# Altium integrated library Xilinx Kintex-7.IntLib: 108 symbols (part 25 of 39)
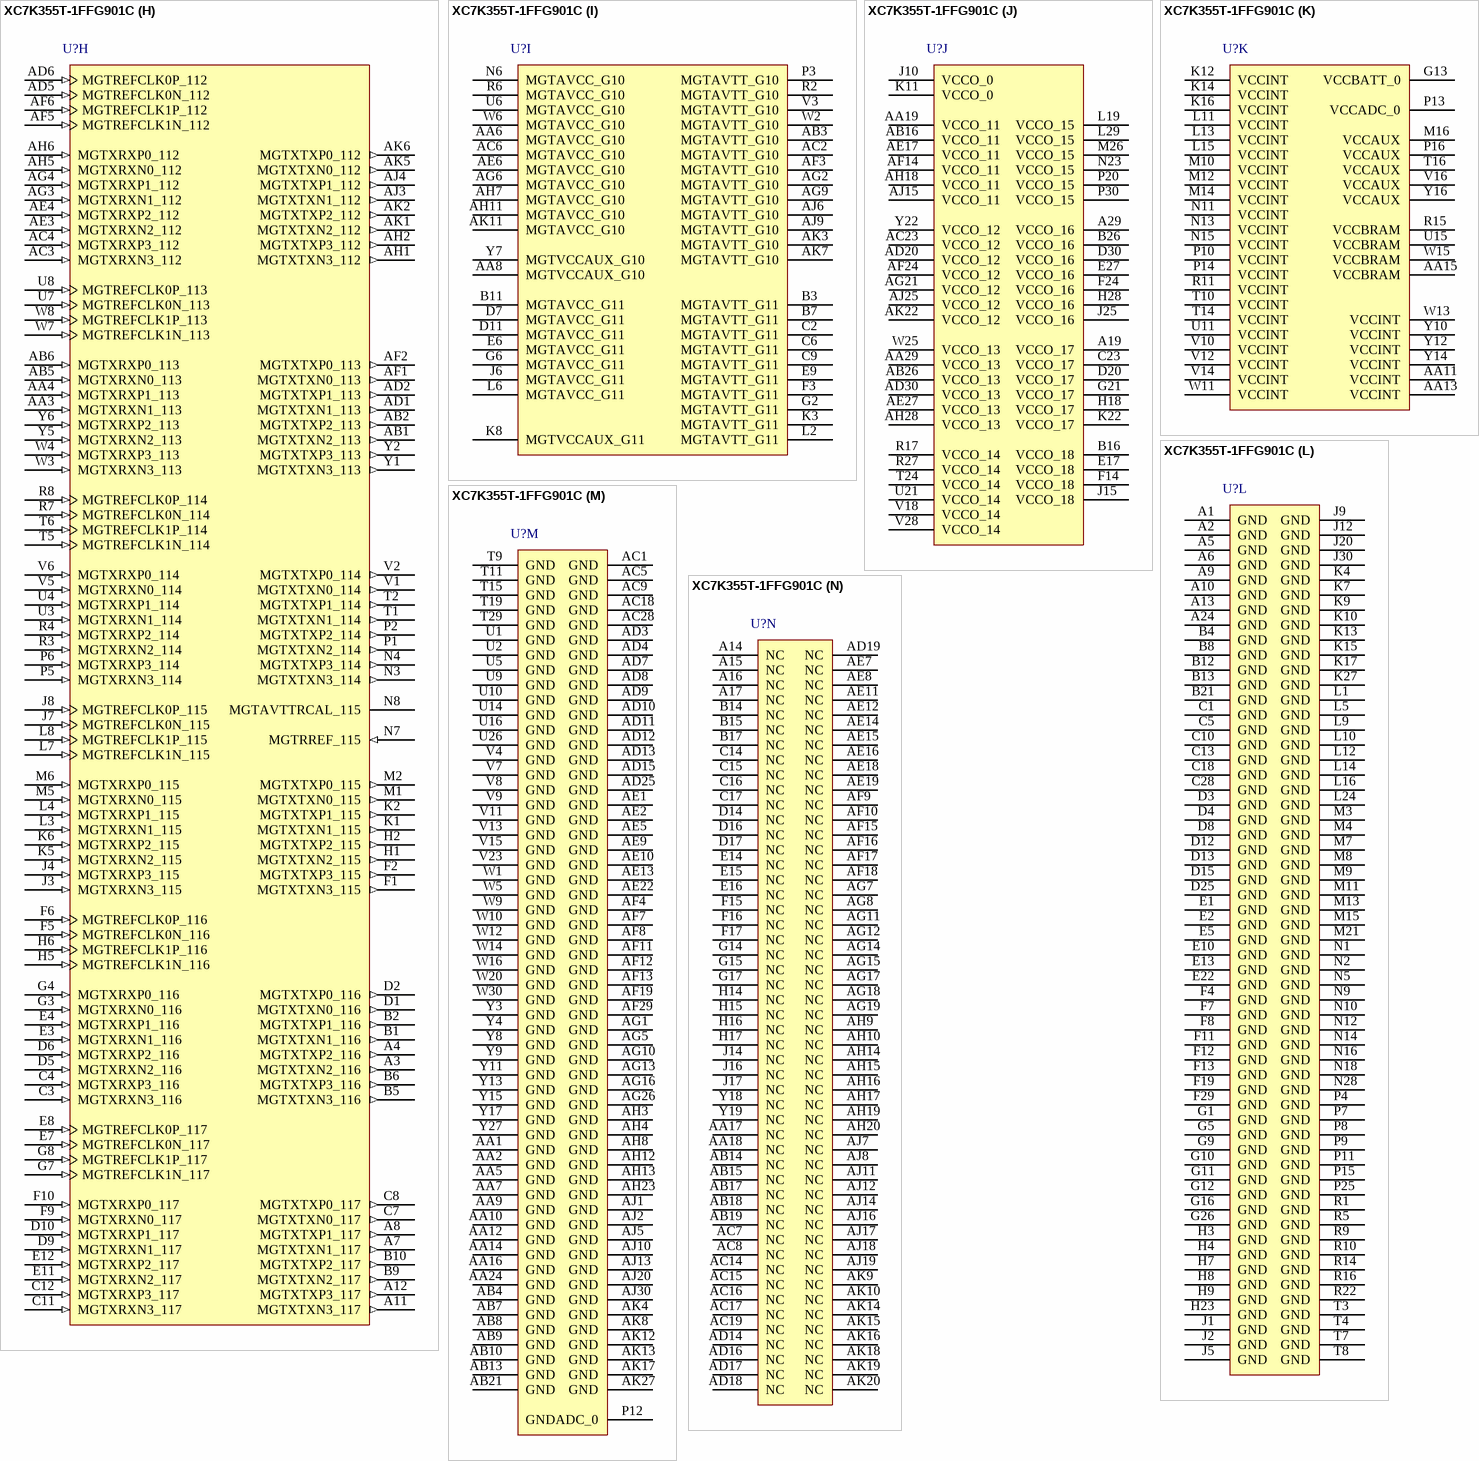
[diagram p315: symbol XC7K355T-1FFG901C]

## XC7K355T-1FFG901C
designator U?
Kintex-7 FPGA, 300 User I/Os, 24 GTX, 900-Ball BGA, Speed Grade 1, Commercial Grade, Pb-Free; Generic Part Number: XC7K355T; Manufacturer: Xilinx; PartNumber: XC7K355T-1FFG901C; GTX: 24; SelectIO HP: 0; SelectIO HR: 300; Speed Grade: -1; DatasheetVersion: v1.12; PackageVersion: Rev 1.8; PackageReference: FFG901; PackageDescription: Flip-Chip BGA, Body 31 x 31 mm, 1.0 mm Pitch; RoHS: Pb-Free; Mounting Technology: Surface Mount; Code_JEDEC: MS-034-AAN-1; ComponentLink1Description: Datasheet; ComponentLink1URL: http://www.xilinx.com/support/documentation/data_sheets/ds180_7Series_Overview.pdf; ComponentLink2Description: Package Specification; ComponentLink2URL: http://www.xilinx.com/support/documentation/user_guides/ug475_7Series_Pkg_Pinout.pdf
footprint FFG901 (BGA, 900-Balls, Body 31x31mm, Pitch 1mm)
part A pins: AA20 IO_L2P_T0_12 (io), AA21 IO_L2N_T0_12 (io), AA22 IO_L3P_T0_DQS_12 (io), AA23 IO_L3N_T0_DQS_12 (io), AB20 IO_L4P_T0_12 (io), AB22 IO_L5P_T0_12 (io), AB23 IO_L5N_T0_12 (io), AC20 IO_L4N_T0_12 (io), AC21 IO_L6P_T0_12 (io), AC22 IO_L6N_T0_VREF_12 (io), AD21 IO_L16P_T2_12 (io), AD22 IO_L16N_T2_12 (io), AD23 IO_L15P_T2_DQS_12 (io), AD24 IO_L10P_T1_12 (io), AD26 IO_L7P_T1_12 (io), AE20 IO_25_12 (io), AE21 IO_L17P_T2_12 (io), AE23 IO_L15N_T2_DQS_12 (io), AE24 IO_L10N_T1_12 (io), AE25 IO_L9P_T1_DQS_12 (io), AE26 IO_L7N_T1_12 (io), AF20 IO_L18P_T2_12 (io), AF21 IO_L17N_T2_12 (io), AF22 IO_L14P_T2_SRCC_12 (io), AF23 IO_L14N_T2_SRCC_12 (io), AF25 IO_L11P_T1_SRCC_12 (io), AF26 IO_L9N_T1_DQS_12 (io), AG20 IO_L18N_T2_12 (io), AG22 IO_L13P_T2_MRCC_12 (io), AG23 IO_L13N_T2_MRCC_12 (io), AG24 IO_L12P_T1_MRCC_12 (io), AG25 IO_L11N_T1_SRCC_12 (io), AH21 IO_L19P_T3_12 (io), AH22 IO_L19N_T3_VREF_12 (io), AH24 IO_L12N_T1_MRCC_12 (io), AH25 IO_L8P_T1_12 (io), AH26 IO_L8N_T1_12 (io), AJ21 IO_L20P_T3_12 (io), AJ22 IO_L21P_T3_DQS_12 (io), AJ23 IO_L22P_T3_12 (io), AJ24 IO_L22N_T3_12 (io), AJ26 IO_L24P_T3_12 (io), AK21 IO_L20N_T3_12 (io), AK23 IO_L21N_T3_DQS_12 (io), AK24 IO_L23P_T3_12 (io), AK25 IO_L23N_T3_12 (io), AK26 IO_L24N_T3_12 (io), Y20 IO_L1P_T0_12 (io), Y21 IO_L1N_T0_12 (io), Y23 IO_0_12 (io)
part B pins: AA25 IO_L8N_T1_13 (io), AA26 IO_L11N_T1_SRCC_13 (io), AA27 IO_L12P_T1_MRCC_13 (io), AA28 IO_L1P_T0_13 (io), AA30 IO_L3N_T0_DQS_13 (io), AB24 IO_L10P_T1_13 (io), AB25 IO_L9P_T1_DQS_13 (io), AB27 IO_L12N_T1_MRCC_13 (io), AB28 IO_L1N_T0_13 (io), AB29 IO_L2P_T0_13 (io), AB30 IO_L2N_T0_13 (io), AC24 IO_L10N_T1_13 (io), AC25 IO_L9N_T1_DQS_13 (io), AC26 IO_L7P_T1_13 (io), AC27 IO_L13P_T2_MRCC_13 (io), AC29 IO_L15P_T2_DQS_13 (io), AC30 IO_L15N_T2_DQS_13 (io), AD27 IO_L7N_T1_13 (io), AD28 IO_L13N_T2_MRCC_13 (io), AD29 IO_L16P_T2_13 (io), AE28 IO_L14P_T2_SRCC_13 (io), AE29 IO_L16N_T2_13 (io), AE30 IO_L17P_T2_13 (io), AF27 IO_L18P_T2_13 (io), AF28 IO_L14N_T2_SRCC_13 (io), AF30 IO_L17N_T2_13 (io), AG27 IO_L19P_T3_13 (io), AG28 IO_L18N_T2_13 (io), AG29 IO_L20P_T3_13 (io), AG30 IO_L22P_T3_13 (io), AH27 IO_L19N_T3_VREF_13 (io), AH29 IO_L20N_T3_13 (io), AH30 IO_L22N_T3_13 (io), AJ27 IO_L21P_T3_DQS_13 (io), AJ28 IO_L21N_T3_DQS_13 (io), AJ29 IO_L23P_T3_13 (io), AK28 IO_L24P_T3_13 (io), AK29 IO_L24N_T3_13 (io), AK30 IO_L23N_T3_13 (io), W24 IO_0_13 (io), W26 IO_L6P_T0_13 (io), W27 IO_L6N_T0_VREF_13 (io), W28 IO_L5P_T0_13 (io), W29 IO_L5N_T0_13 (io), Y24 IO_25_13 (io), Y25 IO_L8P_T1_13 (io), Y26 IO_L11P_T1_SRCC_13 (io), Y28 IO_L4P_T0_13 (io), Y29 IO_L4N_T0_13 (io), Y30 IO_L3P_T0_DQS_13 (io)
part C pins: R18 IO_L19P_T3_A10_D26_14 (io), R19 IO_L19N_T3_A09_D25_VREF_14 (io), R20 IO_L15P_T2_DQS_RDWR_B_14 (io), R21 IO_L15N_T2_DQS_DOUT_CSO_B_14 (io), R23 IO_L8P_T1_D11_14 (io), R24 IO_L7P_T1_D09_14 (io), R25 IO_L7N_T1_D10_14 (io), R26 IO_L10P_T1_D14_14 (io), R28 IO_L2P_T0_D02_14 (io), R30 IO_L1P_T0_D00_MOSI_14 (io), T17 IO_L21P_T3_DQS_14 (io), T18 IO_L21N_T3_DQS_A06_D22_14 (io), T20 IO_L16P_T2_CSI_B_14 (io), T21 IO_L16N_T2_A15_D31_14 (io), T22 IO_0_14 (io), T23 IO_L8N_T1_D12_14 (io), T25 IO_L11P_T1_SRCC_14 (io), T26 IO_L11N_T1_SRCC_14 (io), T27 IO_L10N_T1_D15_14 (io), T28 IO_L2N_T0_D03_14 (io), T30 IO_L1N_T0_D01_DIN_14 (io), U17 IO_L22P_T3_A05_D21_14 (io), U18 IO_L22N_T3_A04_D20_14 (io), U19 IO_L20P_T3_A08_D24_14 (io), U20 IO_L17P_T2_A14_D30_14 (io), U22 IO_L14P_T2_SRCC_14 (io), U23 IO_L14N_T2_SRCC_14 (io), U24 IO_L12P_T1_MRCC_14 (io), U25 IO_L12N_T1_MRCC_14 (io), U27 IO_L5P_T0_D06_14 (io), U28 IO_L5N_T0_D07_14 (io), U29 IO_L4P_T0_D04_14 (io), U30 IO_L4N_T0_D05_14 (io), V17 IO_L23P_T3_A03_D19_14 (io), V19 IO_L20N_T3_A07_D23_14 (io), V20 IO_L17N_T2_A13_D29_14 (io), V21 IO_L13P_T2_MRCC_14 (io), V22 IO_L13N_T2_MRCC_14 (io), V24 IO_L9P_T1_DQS_14 (io), V25 IO_L9N_T1_DQS_D13_14 (io), V26 IO_L6P_T0_FCS_B_14 (io), V27 IO_L6N_T0_D08_VREF_14 (io), V29 IO_L3P_T0_DQS_PUDC_B_14 (io), V30 IO_L3N_T0_DQS_EMCCLK_14 (io), W17 IO_L23N_T3_A02_D18_14 (io), W18 IO_L24P_T3_A01_D17_14 (io), W19 IO_L24N_T3_A00_D16_14 (io), W21 IO_25_14 (io), W22 IO_L18P_T2_A12_D28_14 (io), W23 IO_L18N_T2_A11_D27_14 (io)
part D pins: K24 IO_L15N_T2_DQS_ADV_B_15 (io), K25 IO_L7P_T1_AD10P_15 (io), K26 IO_L7N_T1_AD10N_15 (io), K28 IO_L1P_T0_AD0P_15 (io), K29 IO_L1N_T0_AD0N_15 (io), K30 IO_L2N_T0_AD8N_15 (io), L20 IO_L18P_T2_A24_15 (io), L21 IO_L18N_T2_A23_15 (io), L22 IO_0_15 (io), L23 IO_L15P_T2_DQS_15 (io), L25 IO_L11N_T1_SRCC_AD12N_15 (io), L26 IO_L12P_T1_MRCC_AD5P_15 (io), L27 IO_L12N_T1_MRCC_AD5N_15 (io), L28 IO_L6N_T0_VREF_15 (io), L30 IO_L2P_T0_AD8P_15 (io), M17 IO_L23N_T3_FWE_B_15 (io), M18 IO_L21P_T3_DQS_15 (io), M19 IO_L21N_T3_DQS_A18_15 (io), M20 IO_L19N_T3_A21_VREF_15 (io), M22 IO_L16N_T2_A27_15 (io), M23 IO_L13P_T2_MRCC_15 (io), M24 IO_L13N_T2_MRCC_15 (io), M25 IO_L11P_T1_SRCC_AD12P_15 (io), M27 IO_L9N_T1_DQS_AD11N_15 (io), M28 IO_L6P_T0_15 (io), M29 IO_L4N_T0_AD9N_15 (io), M30 IO_L3N_T0_DQS_AD1N_15 (io), N17 IO_L23P_T3_FOE_B_15 (io), N19 IO_L22N_T3_A16_15 (io), N20 IO_L19P_T3_A22_15 (io), N21 IO_L20N_T3_A19_15 (io), N22 IO_L16P_T2_A28_15 (io), N24 IO_L14P_T2_SRCC_15 (io), N25 IO_L14N_T2_SRCC_15 (io), N26 IO_L8N_T1_AD3N_15 (io), N27 IO_L9P_T1_DQS_AD11P_15 (io), N29 IO_L4P_T0_AD9P_15 (io), N30 IO_L3P_T0_DQS_AD1P_15 (io), P17 IO_L24P_T3_RS1_15 (io), P18 IO_L24N_T3_RS0_15 (io), P19 IO_L22P_T3_A17_15 (io), P21 IO_L20P_T3_A20_15 (io), P22 IO_25_15 (io), P23 IO_L17P_T2_A26_15 (io), P24 IO_L17N_T2_A25_15 (io), P26 IO_L8P_T1_AD3P_15 (io), P27 IO_L10P_T1_AD4P_15 (io), P28 IO_L10N_T1_AD4N_15 (io), P29 IO_L5N_T0_AD2N_15 (io), R29 IO_L5P_T0_AD2P_15 (io)
part E pins: A25 IO_L4P_T0_16 (io), A26 IO_L4N_T0_16 (io), A27 IO_L24P_T3_16 (io), A28 IO_L24N_T3_16 (io), A30 IO_L23N_T3_16 (io), B24 IO_L2P_T0_16 (io), B25 IO_L2N_T0_16 (io), B27 IO_L5N_T0_16 (io), B28 IO_L22P_T3_16 (io), B29 IO_L22N_T3_16 (io), B30 IO_L23P_T3_16 (io), C24 IO_L1N_T0_16 (io), C25 IO_L3P_T0_DQS_16 (io), C26 IO_L3N_T0_DQS_16 (io), C27 IO_L5P_T0_16 (io), C29 IO_L21P_T3_DQS_16 (io), C30 IO_L21N_T3_DQS_16 (io), D24 IO_L1P_T0_16 (io), D26 IO_L6P_T0_16 (io), D27 IO_L6N_T0_VREF_16 (io), D28 IO_L19N_T3_VREF_16 (io), D29 IO_L20N_T3_16 (io), E24 IO_0_16 (io), E25 IO_L12P_T1_MRCC_16 (io), E26 IO_L12N_T1_MRCC_16 (io), E28 IO_L19P_T3_16 (io), E29 IO_L20P_T3_16 (io), E30 IO_L16N_T2_16 (io), F25 IO_L11P_T1_SRCC_16 (io), F26 IO_L11N_T1_SRCC_16 (io), F27 IO_L13N_T2_MRCC_16 (io), F28 IO_L14N_T2_SRCC_16 (io), F30 IO_L16P_T2_16 (io), G24 IO_L7N_T1_16 (io), G25 IO_L8N_T1_16 (io), G27 IO_L13P_T2_MRCC_16 (io), G28 IO_L14P_T2_SRCC_16 (io), G29 IO_L15N_T2_DQS_16 (io), G30 IO_L17N_T2_16 (io), H24 IO_L7P_T1_16 (io), H25 IO_L8P_T1_16 (io), H26 IO_L10P_T1_16 (io), H27 IO_L10N_T1_16 (io), H29 IO_L15P_T2_DQS_16 (io), H30 IO_L17P_T2_16 (io), J24 IO_25_16 (io), J26 IO_L9P_T1_DQS_16 (io), J27 IO_L9N_T1_DQS_16 (io), J28 IO_L18P_T2_16 (io), J29 IO_L18N_T2_16 (io)
part F pins: A18 IO_L21N_T3_DQS_17 (io), A20 IO_L22P_T3_17 (io), A21 IO_L22N_T3_17 (io), A22 IO_L24P_T3_17 (io), A23 IO_L24N_T3_17 (io), B18 IO_L21P_T3_DQS_17 (io), B19 IO_L20P_T3_17 (io), B20 IO_L20N_T3_17 (io), B22 IO_L23P_T3_17 (io), B23 IO_L23N_T3_17 (io), C19 IO_L19P_T3_17 (io), C20 IO_L19N_T3_VREF_17 (io), C21 IO_L16P_T2_17 (io), C22 IO_L16N_T2_17 (io), D18 IO_L18P_T2_17 (io), D19 IO_L18N_T2_17 (io), D21 IO_L14P_T2_SRCC_17 (io), D22 IO_L14N_T2_SRCC_17 (io), D23 IO_L15N_T2_DQS_17 (io), E18 IO_L17P_T2_17 (io), E19 IO_L17N_T2_17 (io), E20 IO_L13P_T2_MRCC_17 (io), E21 IO_L13N_T2_MRCC_17 (io), E23 IO_L15P_T2_DQS_17 (io), F18 IO_L10N_T1_17 (io), F20 IO_L12P_T1_MRCC_17 (io), F21 IO_L12N_T1_MRCC_17 (io), F22 IO_L11N_T1_SRCC_17 (io), F23 IO_L7N_T1_17 (io), G18 IO_L10P_T1_17 (io), G19 IO_L9N_T1_DQS_17 (io), G20 IO_L8N_T1_17 (io), G22 IO_L11P_T1_SRCC_17 (io), G23 IO_L7P_T1_17 (io), H19 IO_L9P_T1_DQS_17 (io), H20 IO_L8P_T1_17 (io), H21 IO_0_17 (io), H22 IO_L2N_T0_17 (io), J18 IO_L5P_T0_17 (io), J19 IO_L5N_T0_17 (io), J21 IO_L3N_T0_DQS_17 (io), J22 IO_L2P_T0_17 (io), J23 IO_L1N_T0_17 (io), K18 IO_L6N_T0_VREF_17 (io), K19 IO_L4P_T0_17 (io), K20 IO_L4N_T0_17 (io), K21 IO_L3P_T0_DQS_17 (io), K23 IO_L1P_T0_17 (io), L17 IO_25_17 (io), L18 IO_L6P_T0_17 (io)
part G pins: AB11 PROGRAM_B_0 (in), AB12 M2_0 (in), AC10 DONE_0 (io), AC11 CFGBVS_0 (in), AC12 M1_0 (in), AC13 M0_0 (in), H10 INIT_B_0 (io), H11 TDI_0 (in), H12 TCK_0 (in), H13 CCLK_0 (io), J11 TMS_0 (in), J13 TDO_0 (out), R12 VREFN_0 (in), R13 VP_0 (in), T12 VN_0 (in), T13 VREFP_0 (in), U12 DXN_0 (in), U13 DXP_0 (in)
part H pins: A3 MGTXTXN2_116 (out), A4 MGTXTXP2_116 (out), A7 MGTXTXN1_117 (out), A8 MGTXTXP1_117 (out), A11 MGTXTXN3_117 (out), A12 MGTXTXP3_117 (out), AA3 MGTXRXN1_113 (in), AA4 MGTXRXP1_113 (in), AB1 MGTXTXN2_113 (out), AB2 MGTXTXP2_113 (out), AB5 MGTXRXN0_113 (in), AB6 MGTXRXP0_113 (in), AC3 MGTXRXN3_112 (in), AC4 MGTXRXP3_112 (in), AD1 MGTXTXN1_113 (out), AD2 MGTXTXP1_113 (out), AD5 MGTREFCLK0N_112 (in), AD6 MGTREFCLK0P_112 (in), AE3 MGTXRXN2_112 (in), AE4 MGTXRXP2_112 (in), AF1 MGTXTXN0_113 (out), AF2 MGTXTXP0_113 (out), AF5 MGTREFCLK1N_112 (in), AF6 MGTREFCLK1P_112 (in), AG3 MGTXRXN1_112 (in), AG4 MGTXRXP1_112 (in), AH1 MGTXTXN3_112 (out), AH2 MGTXTXP3_112 (out), AH5 MGTXRXN0_112 (in), AH6 MGTXRXP0_112 (in), AJ3 MGTXTXN1_112 (out), AJ4 MGTXTXP1_112 (out), AK1 MGTXTXN2_112 (out), AK2 MGTXTXP2_112 (out), AK5 MGTXTXN0_112 (out), AK6 MGTXTXP0_112 (out), B1 MGTXTXN1_116 (out), B2 MGTXTXP1_116 (out), B5 MGTXTXN3_116 (out), B6 MGTXTXP3_116 (out), B9 MGTXTXN2_117 (out), B10 MGTXTXP2_117 (out), C3 MGTXRXN3_116 (in), C4 MGTXRXP3_116 (in), C7 MGTXTXN0_117 (out), C8 MGTXTXP0_117 (out), C11 MGTXRXN3_117 (in), C12 MGTXRXP3_117 (in), D1 MGTXTXN0_116 (out), D2 MGTXTXP0_116 (out), D5 MGTXRXN2_116 (in), D6 MGTXRXP2_116 (in), D9 MGTXRXN1_117 (in), D10 MGTXRXP1_117 (in), E3 MGTXRXN1_116 (in), E4 MGTXRXP1_116 (in), E7 MGTREFCLK0N_117 (in), E8 MGTREFCLK0P_117 (in), E11 MGTXRXN2_117 (in), E12 MGTXRXP2_117 (in), F1 MGTXTXN3_115 (out), F2 MGTXTXP3_115 (out), F5 MGTREFCLK0N_116 (in), F6 MGTREFCLK0P_116 (in), F9 MGTXRXN0_117 (in), F10 MGTXRXP0_117 (in), G3 MGTXRXN0_116 (in), G4 MGTXRXP0_116 (in), G7 MGTREFCLK1N_117 (in), G8 MGTREFCLK1P_117 (in), H1 MGTXTXN2_115 (out), H2 MGTXTXP2_115 (out), H5 MGTREFCLK1N_116 (in), H6 MGTREFCLK1P_116 (in), J3 MGTXRXN3_115 (in), J4 MGTXRXP3_115 (in), J7 MGTREFCLK0N_115 (in), J8 MGTREFCLK0P_115 (in), K1 MGTXTXN1_115 (out), K2 MGTXTXP1_115 (out), K5 MGTXRXN2_115 (in), K6 MGTXRXP2_115 (in), L3 MGTXRXN1_115 (in), L4 MGTXRXP1_115 (in), L7 MGTREFCLK1N_115 (in), L8 MGTREFCLK1P_115 (in), M1 MGTXTXN0_115 (out), M2 MGTXTXP0_115 (out), M5 MGTXRXN0_115 (in), M6 MGTXRXP0_115 (in), N3 MGTXTXN3_114 (out), N4 MGTXTXP3_114 (out), N7 MGTRREF_115 (in), N8 MGTAVTTRCAL_115, P1 MGTXTXN2_114 (out), P2 MGTXTXP2_114 (out), P5 MGTXRXN3_114 (in), P6 MGTXRXP3_114 (in), R3 MGTXRXN2_114 (in), R4 MGTXRXP2_114 (in), R7 MGTREFCLK0N_114 (in), R8 MGTREFCLK0P_114 (in), T1 MGTXTXN1_114 (out), T2 MGTXTXP1_114 (out), T5 MGTREFCLK1N_114 (in), T6 MGTREFCLK1P_114 (in), U3 MGTXRXN1_114 (in), U4 MGTXRXP1_114 (in), U7 MGTREFCLK0N_113 (in), U8 MGTREFCLK0P_113 (in), V1 MGTXTXN0_114 (out), V2 MGTXTXP0_114 (out), V5 MGTXRXN0_114 (in), V6 MGTXRXP0_114 (in), W3 MGTXRXN3_113 (in), W4 MGTXRXP3_113 (in), W7 MGTREFCLK1N_113 (in), W8 MGTREFCLK1P_113 (in), Y1 MGTXTXN3_113 (out), Y2 MGTXTXP3_113 (out), Y5 MGTXRXN2_113 (in), Y6 MGTXRXP2_113 (in)
part I pins: AA6 MGTAVCC_G10 (power), AA8 MGTVCCAUX_G10 (power), AB3 MGTAVTT_G10 (power), AC2 MGTAVTT_G10 (power), AC6 MGTAVCC_G10 (power), AE6 MGTAVCC_G10 (power), AF3 MGTAVTT_G10 (power), AG2 MGTAVTT_G10 (power), AG6 MGTAVCC_G10 (power), AG9 MGTAVTT_G10 (power), AH7 MGTAVCC_G10 (power), AH11 MGTAVCC_G10 (power), AJ6 MGTAVTT_G10 (power), AJ9 MGTAVTT_G10 (power), AK3 MGTAVTT_G10 (power), AK7 MGTAVTT_G10 (power), AK11 MGTAVCC_G10 (power), B3 MGTAVTT_G11 (power), B7 MGTAVTT_G11 (power), B11 MGTAVCC_G11 (power), C2 MGTAVTT_G11 (power), C6 MGTAVTT_G11 (power), C9 MGTAVTT_G11 (power), D7 MGTAVCC_G11 (power), D11 MGTAVCC_G11 (power), E6 MGTAVCC_G11 (power), E9 MGTAVTT_G11 (power), F3 MGTAVTT_G11 (power), G2 MGTAVTT_G11 (power), G6 MGTAVCC_G11 (power), J6 MGTAVCC_G11 (power), K3 MGTAVTT_G11 (power), K8 MGTVCCAUX_G11 (power), L2 MGTAVTT_G11 (power), L6 MGTAVCC_G11 (power), N6 MGTAVCC_G10 (power), P3 MGTAVTT_G10 (power), R2 MGTAVTT_G10 (power), R6 MGTAVCC_G10 (power), U6 MGTAVCC_G10 (power), V3 MGTAVTT_G10 (power), W2 MGTAVTT_G10 (power), W6 MGTAVCC_G10 (power), Y7 MGTVCCAUX_G10 (power)
part J pins: A19 VCCO_17 (power), A29 VCCO_16 (power), AA19 VCCO_11 (power), AA29 VCCO_13 (power), AB16 VCCO_11 (power), AB26 VCCO_13 (power), AC23 VCCO_12 (power), AD20 VCCO_12 (power), AD30 VCCO_13 (power), AE17 VCCO_11 (power), AE27 VCCO_13 (power), AF14 VCCO_11 (power), AF24 VCCO_12 (power), AG21 VCCO_12 (power), AH18 VCCO_11 (power), AH28 VCCO_13 (power), AJ15 VCCO_11 (power), AJ25 VCCO_12 (power), AK22 VCCO_12 (power), B16 VCCO_18 (power), B26 VCCO_16 (power), C23 VCCO_17 (power), D20 VCCO_17 (power), D30 VCCO_16 (power), E17 VCCO_18 (power), E27 VCCO_16 (power), F14 VCCO_18 (power), F24 VCCO_16 (power), G21 VCCO_17 (power), H18 VCCO_17 (power), H28 VCCO_16 (power), J10 VCCO_0 (power), J15 VCCO_18 (power), J25 VCCO_16 (power), K11 VCCO_0 (power), K22 VCCO_17 (power), L19 VCCO_15 (power), L29 VCCO_15 (power), M26 VCCO_15 (power), N23 VCCO_15 (power), P20 VCCO_15 (power), P30 VCCO_15 (power), R17 VCCO_14 (power), R27 VCCO_14 (power), T24 VCCO_14 (power), U21 VCCO_14 (power), V18 VCCO_14 (power), V28 VCCO_14 (power), W25 VCCO_13 (power), Y22 VCCO_12 (power)
part K pins: AA11 VCCINT (power), AA13 VCCINT (power), AA15 VCCBRAM (power), G13 VCCBATT_0 (power), K12 VCCINT (power), K14 VCCINT (power), K16 VCCINT (power), L11 VCCINT (power), L13 VCCINT (power), L15 VCCINT (power), M10 VCCINT (power), M12 VCCINT (power), M14 VCCINT (power), M16 VCCAUX (power), N11 VCCINT (power), N13 VCCINT (power), N15 VCCINT (power), P10 VCCINT (power), P13 VCCADC_0 (power), P14 VCCINT (power), P16 VCCAUX (power), R11 VCCINT (power), R15 VCCBRAM (power), T10 VCCINT (power), T14 VCCINT (power), T16 VCCAUX (power), U11 VCCINT (power), U15 VCCBRAM (power), V10 VCCINT (power), V12 VCCINT (power), V14 VCCINT (power), V16 VCCAUX (power), W11 VCCINT (power), W13 VCCINT (power), W15 VCCBRAM (power), Y10 VCCINT (power), Y12 VCCINT (power), Y14 VCCINT (power), Y16 VCCAUX (power)
part L pins: A1 GND (power), A2 GND (power), A5 GND (power), A6 GND (power), A9 GND (power), A10 GND (power), A13 GND (power), A24 GND (power), B4 GND (power), B8 GND (power), B12 GND (power), B13 GND (power), B21 GND (power), C1 GND (power), C5 GND (power), C10 GND (power), C13 GND (power), C18 GND (power), C28 GND (power), D3 GND (power), D4 GND (power), D8 GND (power), D12 GND (power), D13 GND (power), D15 GND (power), D25 GND (power), E1 GND (power), E2 GND (power), E5 GND (power), E10 GND (power), E13 GND (power), E22 GND (power), F4 GND (power), F7 GND (power), F8 GND (power), F11 GND (power), F12 GND (power), F13 GND (power), F19 GND (power), F29 GND (power), G1 GND (power), G5 GND (power), G9 GND (power), G10 GND (power), G11 GND (power), G12 GND (power), G16 GND (power), G26 GND (power), H3 GND (power), H4 GND (power), H7 GND (power), H8 GND (power), H9 GND (power), H23 GND (power), J1 GND (power), J2 GND (power), J5 GND (power), J9 GND (power), J12 GND (power), J20 GND (power), J30 GND (power), K4 GND (power), K7 GND (power), K9 GND (power), K10 GND (power), K13 GND (power), K15 GND (power), K17 GND (power), K27 GND (power), L1 GND (power), L5 GND (power), L9 GND (power), L10 GND (power), L12 GND (power), L14 GND (power), L16 GND (power), L24 GND (power), M3 GND (power), M4 GND (power), M7 GND (power), M8 GND (power), M9 GND (power), M11 GND (power), M13 GND (power), M15 GND (power), M21 GND (power), N1 GND (power), N2 GND (power), N5 GND (power), N9 GND (power), N10 GND (power), N12 GND (power), N14 GND (power), N16 GND (power), N18 GND (power), N28 GND (power), P4 GND (power), P7 GND (power), P8 GND (power), P9 GND (power), P11 GND (power), P15 GND (power), P25 GND (power), R1 GND (power), R5 GND (power), R9 GND (power), R10 GND (power), R14 GND (power), R16 GND (power), R22 GND (power), T3 GND (power), T4 GND (power), T7 GND (power), T8 GND (power)
part M pins: AA1 GND (power), AA2 GND (power), AA5 GND (power), AA7 GND (power), AA9 GND (power), AA10 GND (power), AA12 GND (power), AA14 GND (power), AA16 GND (power), AA24 GND (power), AB4 GND (power), AB7 GND (power), AB8 GND (power), AB9 GND (power), AB10 GND (power), AB13 GND (power), AB21 GND (power), AC1 GND (power), AC5 GND (power), AC9 GND (power), AC18 GND (power), AC28 GND (power), AD3 GND (power), AD4 GND (power), AD7 GND (power), AD8 GND (power), AD9 GND (power), AD10 GND (power), AD11 GND (power), AD12 GND (power), AD13 GND (power), AD15 GND (power), AD25 GND (power), AE1 GND (power), AE2 GND (power), AE5 GND (power), AE9 GND (power), AE10 GND (power), AE13 GND (power), AE22 GND (power), AF4 GND (power), AF7 GND (power), AF8 GND (power), AF11 GND (power), AF12 GND (power), AF13 GND (power), AF19 GND (power), AF29 GND (power), AG1 GND (power), AG5 GND (power), AG10 GND (power), AG13 GND (power), AG16 GND (power), AG26 GND (power), AH3 GND (power), AH4 GND (power), AH8 GND (power), AH12 GND (power), AH13 GND (power), AH23 GND (power), AJ1 GND (power), AJ2 GND (power), AJ5 GND (power), AJ10 GND (power), AJ13 GND (power), AJ20 GND (power), AJ30 GND (power), AK4 GND (power), AK8 GND (power), AK12 GND (power), AK13 GND (power), AK17 GND (power), AK27 GND (power), P12 GNDADC_0 (power), T9 GND (power), T11 GND (power), T15 GND (power), T19 GND (power), T29 GND (power), U1 GND (power), U2 GND (power), U5 GND (power), U9 GND (power), U10 GND (power), U14 GND (power), U16 GND (power), U26 GND (power), V4 GND (power), V7 GND (power), V8 GND (power), V9 GND (power), V11 GND (power), V13 GND (power), V15 GND (power), V23 GND (power), W1 GND (power), W5 GND (power), W9 GND (power), W10 GND (power), W12 GND (power), W14 GND (power), W16 GND (power), W20 GND (power), W30 GND (power), Y3 GND (power), Y4 GND (power), Y8 GND (power), Y9 GND (power), Y11 GND (power), Y13 GND (power), Y15 GND (power), Y17 GND (power), Y27 GND (power)
part N pins: A14 NC, A15 NC, A16 NC, A17 NC, AA17 NC, AA18 NC, AB14 NC, AB15 NC, AB17 NC, AB18 NC, AB19 NC, AC7 NC, AC8 NC, AC14 NC, AC15 NC, AC16 NC, AC17 NC, AC19 NC, AD14 NC, AD16 NC, AD17 NC, AD18 NC, AD19 NC, AE7 NC, AE8 NC, AE11 NC, AE12 NC, AE14 NC, AE15 NC, AE16 NC, AE18 NC, AE19 NC, AF9 NC, AF10 NC, AF15 NC, AF16 NC, AF17 NC, AF18 NC, AG7 NC, AG8 NC, AG11 NC, AG12 NC, AG14 NC, AG15 NC, AG17 NC, AG18 NC, AG19 NC, AH9 NC, AH10 NC, AH14 NC, AH15 NC, AH16 NC, AH17 NC, AH19 NC, AH20 NC, AJ7 NC, AJ8 NC, AJ11 NC, AJ12 NC, AJ14 NC, AJ16 NC, AJ17 NC, AJ18 NC, AJ19 NC, AK9 NC, AK10 NC, AK14 NC, AK15 NC, AK16 NC, AK18 NC, AK19 NC, AK20 NC, B14 NC, B15 NC, B17 NC, C14 NC, C15 NC, C16 NC, C17 NC, D14 NC, D16 NC, D17 NC, E14 NC, E15 NC, E16 NC, F15 NC, F16 NC, F17 NC, G14 NC, G15 NC, G17 NC, H14 NC, H15 NC, H16 NC, H17 NC, J14 NC, J16 NC, J17 NC, Y18 NC, Y19 NC
part A text: BANK 12
part B text: BANK 13
part C text: BANK 14
part D text: BANK 15
part E text: BANK 16
part F text: BANK 17

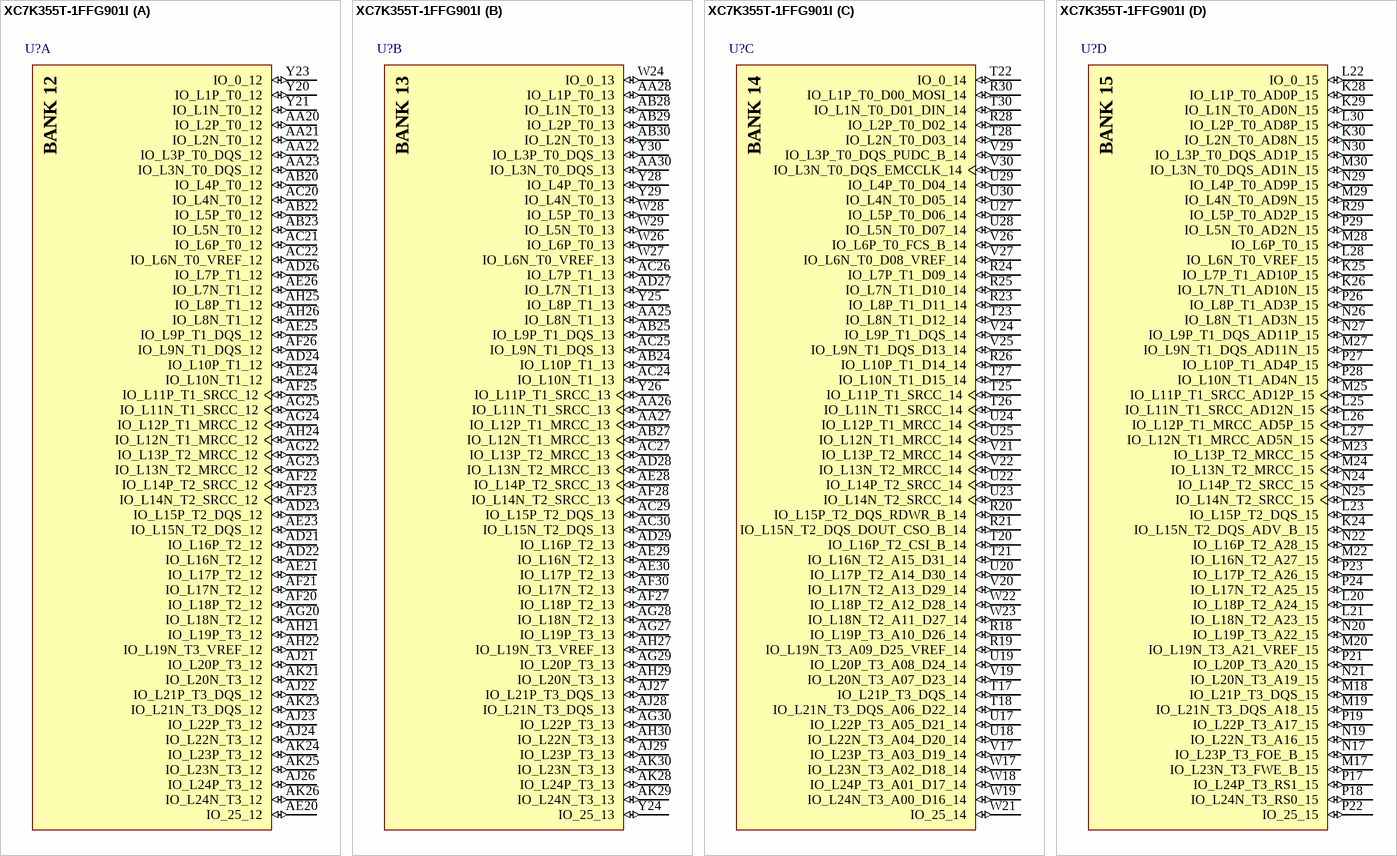
[diagram p136: symbol XC7K355T-1FFG901I]

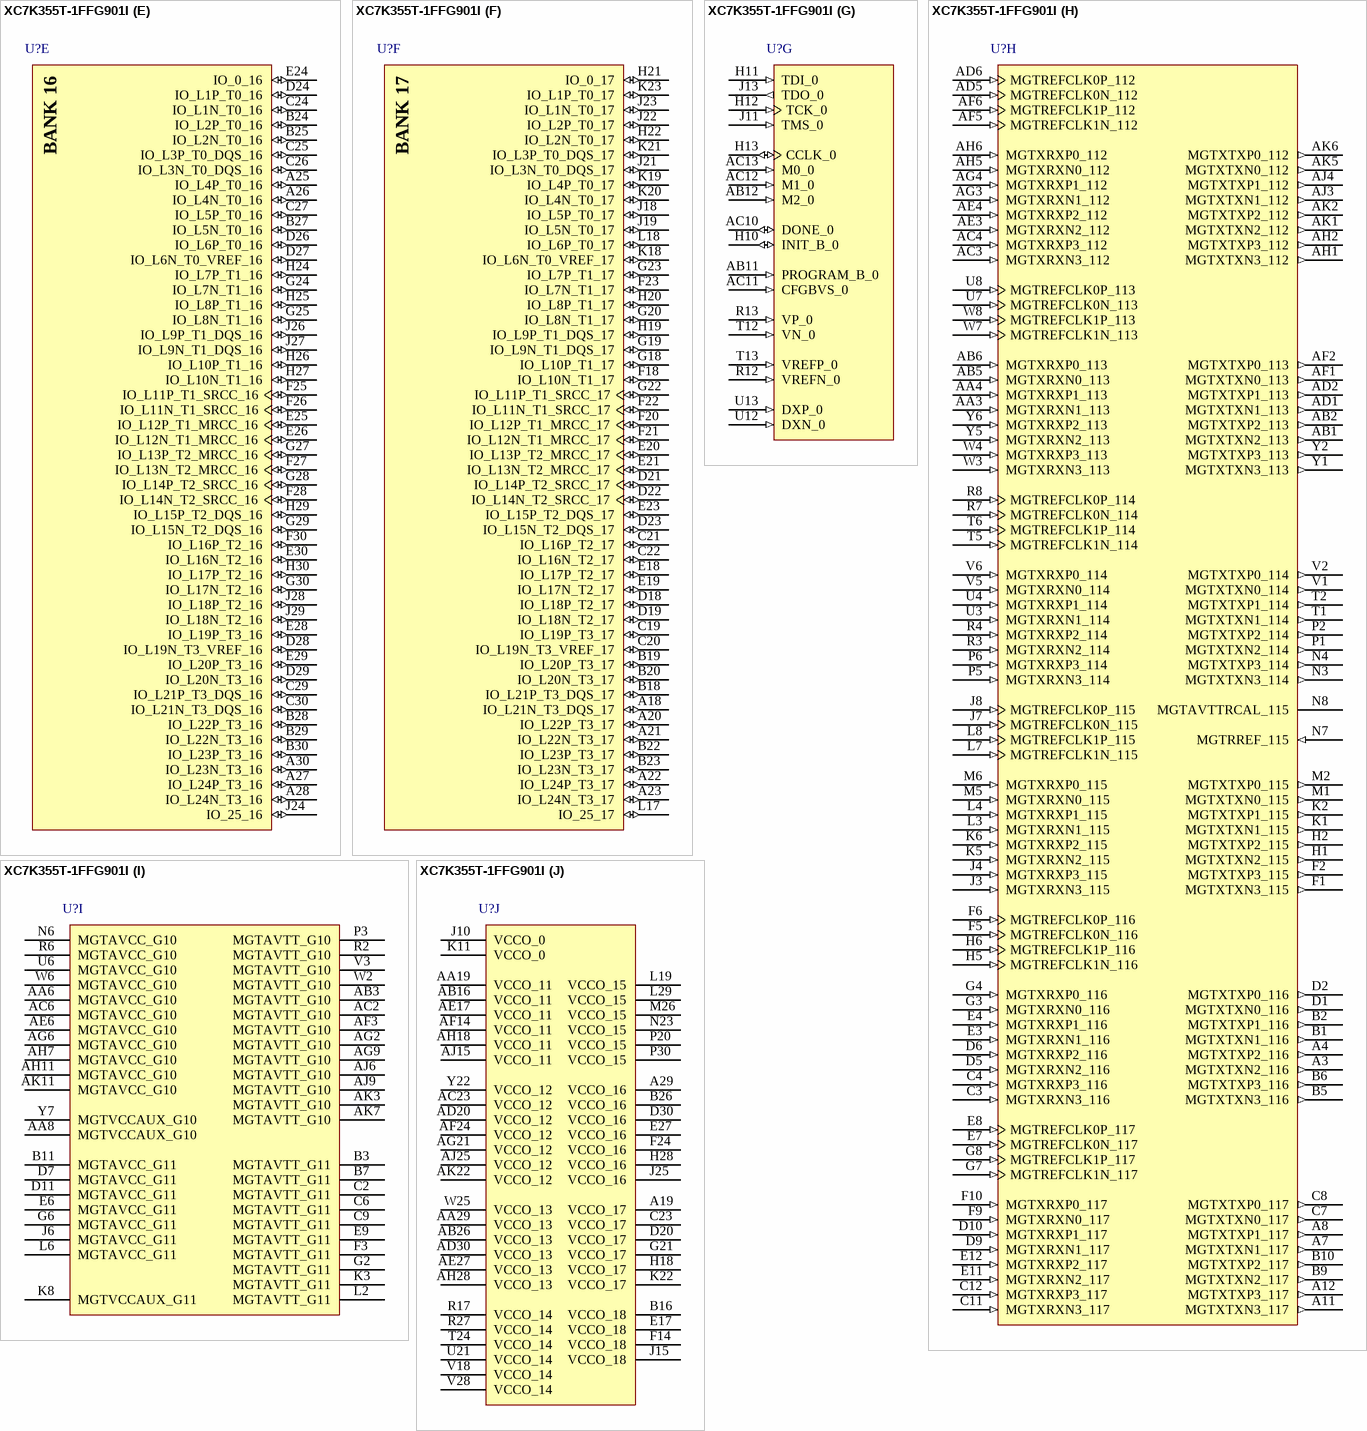
[diagram p137: symbol XC7K355T-1FFG901I]

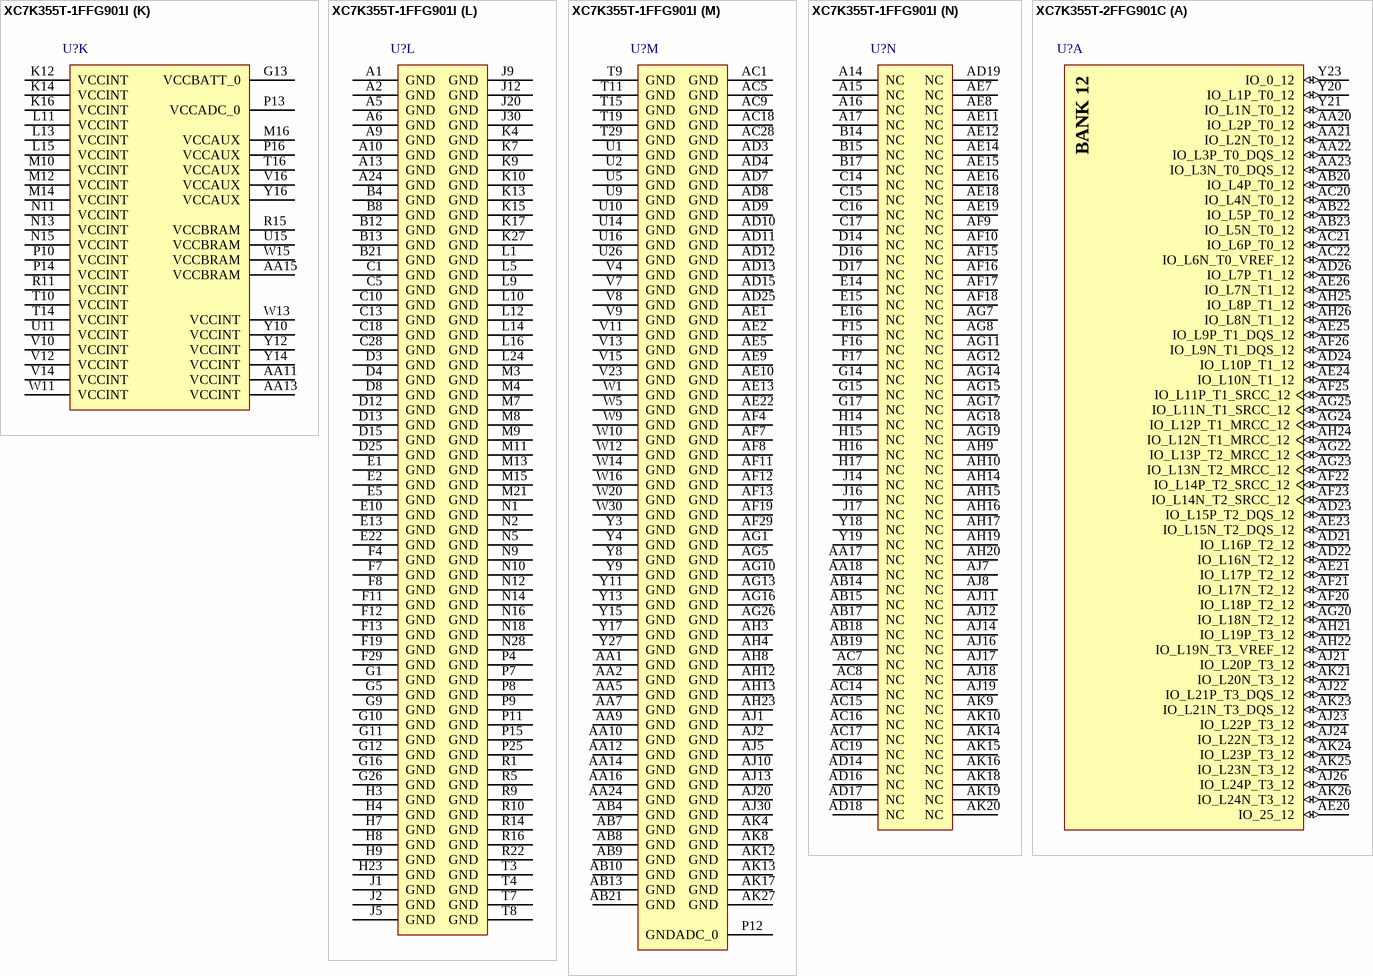
[diagram p138: symbols XC7K355T-1FFG901I to XC7K355T-2FFG901C]

## XC7K355T-1FFG901I
designator U?
Kintex-7 FPGA, 300 User I/Os, 24 GTX, 900-Ball BGA, Speed Grade 1, Industrial Grade, Pb-Free; Generic Part Number: XC7K355T; Manufacturer: Xilinx; PartNumber: XC7K355T-1FFG901I; GTX: 24; SelectIO HP: 0; SelectIO HR: 300; Speed Grade: -1; DatasheetVersion: v1.12; PackageVersion: Rev 1.8; PackageReference: FFG901; PackageDescription: Flip-Chip BGA, Body 31 x 31 mm, 1.0 mm Pitch; RoHS: Pb-Free; Mounting Technology: Surface Mount; Code_JEDEC: MS-034-AAN-1; ComponentLink1Description: Datasheet; ComponentLink1URL: http://www.xilinx.com/support/documentation/data_sheets/ds180_7Series_Overview.pdf; ComponentLink2Description: Package Specification; ComponentLink2URL: http://www.xilinx.com/support/documentation/user_guides/ug475_7Series_Pkg_Pinout.pdf
footprint FFG901 (BGA, 900-Balls, Body 31x31mm, Pitch 1mm)
part A pins: AA20 IO_L2P_T0_12 (io), AA21 IO_L2N_T0_12 (io), AA22 IO_L3P_T0_DQS_12 (io), AA23 IO_L3N_T0_DQS_12 (io), AB20 IO_L4P_T0_12 (io), AB22 IO_L5P_T0_12 (io), AB23 IO_L5N_T0_12 (io), AC20 IO_L4N_T0_12 (io), AC21 IO_L6P_T0_12 (io), AC22 IO_L6N_T0_VREF_12 (io), AD21 IO_L16P_T2_12 (io), AD22 IO_L16N_T2_12 (io), AD23 IO_L15P_T2_DQS_12 (io), AD24 IO_L10P_T1_12 (io), AD26 IO_L7P_T1_12 (io), AE20 IO_25_12 (io), AE21 IO_L17P_T2_12 (io), AE23 IO_L15N_T2_DQS_12 (io), AE24 IO_L10N_T1_12 (io), AE25 IO_L9P_T1_DQS_12 (io), AE26 IO_L7N_T1_12 (io), AF20 IO_L18P_T2_12 (io), AF21 IO_L17N_T2_12 (io), AF22 IO_L14P_T2_SRCC_12 (io), AF23 IO_L14N_T2_SRCC_12 (io), AF25 IO_L11P_T1_SRCC_12 (io), AF26 IO_L9N_T1_DQS_12 (io), AG20 IO_L18N_T2_12 (io), AG22 IO_L13P_T2_MRCC_12 (io), AG23 IO_L13N_T2_MRCC_12 (io), AG24 IO_L12P_T1_MRCC_12 (io), AG25 IO_L11N_T1_SRCC_12 (io), AH21 IO_L19P_T3_12 (io), AH22 IO_L19N_T3_VREF_12 (io), AH24 IO_L12N_T1_MRCC_12 (io), AH25 IO_L8P_T1_12 (io), AH26 IO_L8N_T1_12 (io), AJ21 IO_L20P_T3_12 (io), AJ22 IO_L21P_T3_DQS_12 (io), AJ23 IO_L22P_T3_12 (io), AJ24 IO_L22N_T3_12 (io), AJ26 IO_L24P_T3_12 (io), AK21 IO_L20N_T3_12 (io), AK23 IO_L21N_T3_DQS_12 (io), AK24 IO_L23P_T3_12 (io), AK25 IO_L23N_T3_12 (io), AK26 IO_L24N_T3_12 (io), Y20 IO_L1P_T0_12 (io), Y21 IO_L1N_T0_12 (io), Y23 IO_0_12 (io)
part B pins: AA25 IO_L8N_T1_13 (io), AA26 IO_L11N_T1_SRCC_13 (io), AA27 IO_L12P_T1_MRCC_13 (io), AA28 IO_L1P_T0_13 (io), AA30 IO_L3N_T0_DQS_13 (io), AB24 IO_L10P_T1_13 (io), AB25 IO_L9P_T1_DQS_13 (io), AB27 IO_L12N_T1_MRCC_13 (io), AB28 IO_L1N_T0_13 (io), AB29 IO_L2P_T0_13 (io), AB30 IO_L2N_T0_13 (io), AC24 IO_L10N_T1_13 (io), AC25 IO_L9N_T1_DQS_13 (io), AC26 IO_L7P_T1_13 (io), AC27 IO_L13P_T2_MRCC_13 (io), AC29 IO_L15P_T2_DQS_13 (io), AC30 IO_L15N_T2_DQS_13 (io), AD27 IO_L7N_T1_13 (io), AD28 IO_L13N_T2_MRCC_13 (io), AD29 IO_L16P_T2_13 (io), AE28 IO_L14P_T2_SRCC_13 (io), AE29 IO_L16N_T2_13 (io), AE30 IO_L17P_T2_13 (io), AF27 IO_L18P_T2_13 (io), AF28 IO_L14N_T2_SRCC_13 (io), AF30 IO_L17N_T2_13 (io), AG27 IO_L19P_T3_13 (io), AG28 IO_L18N_T2_13 (io), AG29 IO_L20P_T3_13 (io), AG30 IO_L22P_T3_13 (io), AH27 IO_L19N_T3_VREF_13 (io), AH29 IO_L20N_T3_13 (io), AH30 IO_L22N_T3_13 (io), AJ27 IO_L21P_T3_DQS_13 (io), AJ28 IO_L21N_T3_DQS_13 (io), AJ29 IO_L23P_T3_13 (io), AK28 IO_L24P_T3_13 (io), AK29 IO_L24N_T3_13 (io), AK30 IO_L23N_T3_13 (io), W24 IO_0_13 (io), W26 IO_L6P_T0_13 (io), W27 IO_L6N_T0_VREF_13 (io), W28 IO_L5P_T0_13 (io), W29 IO_L5N_T0_13 (io), Y24 IO_25_13 (io), Y25 IO_L8P_T1_13 (io), Y26 IO_L11P_T1_SRCC_13 (io), Y28 IO_L4P_T0_13 (io), Y29 IO_L4N_T0_13 (io), Y30 IO_L3P_T0_DQS_13 (io)
part C pins: R18 IO_L19P_T3_A10_D26_14 (io), R19 IO_L19N_T3_A09_D25_VREF_14 (io), R20 IO_L15P_T2_DQS_RDWR_B_14 (io), R21 IO_L15N_T2_DQS_DOUT_CSO_B_14 (io), R23 IO_L8P_T1_D11_14 (io), R24 IO_L7P_T1_D09_14 (io), R25 IO_L7N_T1_D10_14 (io), R26 IO_L10P_T1_D14_14 (io), R28 IO_L2P_T0_D02_14 (io), R30 IO_L1P_T0_D00_MOSI_14 (io), T17 IO_L21P_T3_DQS_14 (io), T18 IO_L21N_T3_DQS_A06_D22_14 (io), T20 IO_L16P_T2_CSI_B_14 (io), T21 IO_L16N_T2_A15_D31_14 (io), T22 IO_0_14 (io), T23 IO_L8N_T1_D12_14 (io), T25 IO_L11P_T1_SRCC_14 (io), T26 IO_L11N_T1_SRCC_14 (io), T27 IO_L10N_T1_D15_14 (io), T28 IO_L2N_T0_D03_14 (io), T30 IO_L1N_T0_D01_DIN_14 (io), U17 IO_L22P_T3_A05_D21_14 (io), U18 IO_L22N_T3_A04_D20_14 (io), U19 IO_L20P_T3_A08_D24_14 (io), U20 IO_L17P_T2_A14_D30_14 (io), U22 IO_L14P_T2_SRCC_14 (io), U23 IO_L14N_T2_SRCC_14 (io), U24 IO_L12P_T1_MRCC_14 (io), U25 IO_L12N_T1_MRCC_14 (io), U27 IO_L5P_T0_D06_14 (io), U28 IO_L5N_T0_D07_14 (io), U29 IO_L4P_T0_D04_14 (io), U30 IO_L4N_T0_D05_14 (io), V17 IO_L23P_T3_A03_D19_14 (io), V19 IO_L20N_T3_A07_D23_14 (io), V20 IO_L17N_T2_A13_D29_14 (io), V21 IO_L13P_T2_MRCC_14 (io), V22 IO_L13N_T2_MRCC_14 (io), V24 IO_L9P_T1_DQS_14 (io), V25 IO_L9N_T1_DQS_D13_14 (io), V26 IO_L6P_T0_FCS_B_14 (io), V27 IO_L6N_T0_D08_VREF_14 (io), V29 IO_L3P_T0_DQS_PUDC_B_14 (io), V30 IO_L3N_T0_DQS_EMCCLK_14 (io), W17 IO_L23N_T3_A02_D18_14 (io), W18 IO_L24P_T3_A01_D17_14 (io), W19 IO_L24N_T3_A00_D16_14 (io), W21 IO_25_14 (io), W22 IO_L18P_T2_A12_D28_14 (io), W23 IO_L18N_T2_A11_D27_14 (io)
part D pins: K24 IO_L15N_T2_DQS_ADV_B_15 (io), K25 IO_L7P_T1_AD10P_15 (io), K26 IO_L7N_T1_AD10N_15 (io), K28 IO_L1P_T0_AD0P_15 (io), K29 IO_L1N_T0_AD0N_15 (io), K30 IO_L2N_T0_AD8N_15 (io), L20 IO_L18P_T2_A24_15 (io), L21 IO_L18N_T2_A23_15 (io), L22 IO_0_15 (io), L23 IO_L15P_T2_DQS_15 (io), L25 IO_L11N_T1_SRCC_AD12N_15 (io), L26 IO_L12P_T1_MRCC_AD5P_15 (io), L27 IO_L12N_T1_MRCC_AD5N_15 (io), L28 IO_L6N_T0_VREF_15 (io), L30 IO_L2P_T0_AD8P_15 (io), M17 IO_L23N_T3_FWE_B_15 (io), M18 IO_L21P_T3_DQS_15 (io), M19 IO_L21N_T3_DQS_A18_15 (io), M20 IO_L19N_T3_A21_VREF_15 (io), M22 IO_L16N_T2_A27_15 (io), M23 IO_L13P_T2_MRCC_15 (io), M24 IO_L13N_T2_MRCC_15 (io), M25 IO_L11P_T1_SRCC_AD12P_15 (io), M27 IO_L9N_T1_DQS_AD11N_15 (io), M28 IO_L6P_T0_15 (io), M29 IO_L4N_T0_AD9N_15 (io), M30 IO_L3N_T0_DQS_AD1N_15 (io), N17 IO_L23P_T3_FOE_B_15 (io), N19 IO_L22N_T3_A16_15 (io), N20 IO_L19P_T3_A22_15 (io), N21 IO_L20N_T3_A19_15 (io), N22 IO_L16P_T2_A28_15 (io), N24 IO_L14P_T2_SRCC_15 (io), N25 IO_L14N_T2_SRCC_15 (io), N26 IO_L8N_T1_AD3N_15 (io), N27 IO_L9P_T1_DQS_AD11P_15 (io), N29 IO_L4P_T0_AD9P_15 (io), N30 IO_L3P_T0_DQS_AD1P_15 (io), P17 IO_L24P_T3_RS1_15 (io), P18 IO_L24N_T3_RS0_15 (io), P19 IO_L22P_T3_A17_15 (io), P21 IO_L20P_T3_A20_15 (io), P22 IO_25_15 (io), P23 IO_L17P_T2_A26_15 (io), P24 IO_L17N_T2_A25_15 (io), P26 IO_L8P_T1_AD3P_15 (io), P27 IO_L10P_T1_AD4P_15 (io), P28 IO_L10N_T1_AD4N_15 (io), P29 IO_L5N_T0_AD2N_15 (io), R29 IO_L5P_T0_AD2P_15 (io)
part E pins: A25 IO_L4P_T0_16 (io), A26 IO_L4N_T0_16 (io), A27 IO_L24P_T3_16 (io), A28 IO_L24N_T3_16 (io), A30 IO_L23N_T3_16 (io), B24 IO_L2P_T0_16 (io), B25 IO_L2N_T0_16 (io), B27 IO_L5N_T0_16 (io), B28 IO_L22P_T3_16 (io), B29 IO_L22N_T3_16 (io), B30 IO_L23P_T3_16 (io), C24 IO_L1N_T0_16 (io), C25 IO_L3P_T0_DQS_16 (io), C26 IO_L3N_T0_DQS_16 (io), C27 IO_L5P_T0_16 (io), C29 IO_L21P_T3_DQS_16 (io), C30 IO_L21N_T3_DQS_16 (io), D24 IO_L1P_T0_16 (io), D26 IO_L6P_T0_16 (io), D27 IO_L6N_T0_VREF_16 (io), D28 IO_L19N_T3_VREF_16 (io), D29 IO_L20N_T3_16 (io), E24 IO_0_16 (io), E25 IO_L12P_T1_MRCC_16 (io), E26 IO_L12N_T1_MRCC_16 (io), E28 IO_L19P_T3_16 (io), E29 IO_L20P_T3_16 (io), E30 IO_L16N_T2_16 (io), F25 IO_L11P_T1_SRCC_16 (io), F26 IO_L11N_T1_SRCC_16 (io), F27 IO_L13N_T2_MRCC_16 (io), F28 IO_L14N_T2_SRCC_16 (io), F30 IO_L16P_T2_16 (io), G24 IO_L7N_T1_16 (io), G25 IO_L8N_T1_16 (io), G27 IO_L13P_T2_MRCC_16 (io), G28 IO_L14P_T2_SRCC_16 (io), G29 IO_L15N_T2_DQS_16 (io), G30 IO_L17N_T2_16 (io), H24 IO_L7P_T1_16 (io), H25 IO_L8P_T1_16 (io), H26 IO_L10P_T1_16 (io), H27 IO_L10N_T1_16 (io), H29 IO_L15P_T2_DQS_16 (io), H30 IO_L17P_T2_16 (io), J24 IO_25_16 (io), J26 IO_L9P_T1_DQS_16 (io), J27 IO_L9N_T1_DQS_16 (io), J28 IO_L18P_T2_16 (io), J29 IO_L18N_T2_16 (io)
part F pins: A18 IO_L21N_T3_DQS_17 (io), A20 IO_L22P_T3_17 (io), A21 IO_L22N_T3_17 (io), A22 IO_L24P_T3_17 (io), A23 IO_L24N_T3_17 (io), B18 IO_L21P_T3_DQS_17 (io), B19 IO_L20P_T3_17 (io), B20 IO_L20N_T3_17 (io), B22 IO_L23P_T3_17 (io), B23 IO_L23N_T3_17 (io), C19 IO_L19P_T3_17 (io), C20 IO_L19N_T3_VREF_17 (io), C21 IO_L16P_T2_17 (io), C22 IO_L16N_T2_17 (io), D18 IO_L18P_T2_17 (io), D19 IO_L18N_T2_17 (io), D21 IO_L14P_T2_SRCC_17 (io), D22 IO_L14N_T2_SRCC_17 (io), D23 IO_L15N_T2_DQS_17 (io), E18 IO_L17P_T2_17 (io), E19 IO_L17N_T2_17 (io), E20 IO_L13P_T2_MRCC_17 (io), E21 IO_L13N_T2_MRCC_17 (io), E23 IO_L15P_T2_DQS_17 (io), F18 IO_L10N_T1_17 (io), F20 IO_L12P_T1_MRCC_17 (io), F21 IO_L12N_T1_MRCC_17 (io), F22 IO_L11N_T1_SRCC_17 (io), F23 IO_L7N_T1_17 (io), G18 IO_L10P_T1_17 (io), G19 IO_L9N_T1_DQS_17 (io), G20 IO_L8N_T1_17 (io), G22 IO_L11P_T1_SRCC_17 (io), G23 IO_L7P_T1_17 (io), H19 IO_L9P_T1_DQS_17 (io), H20 IO_L8P_T1_17 (io), H21 IO_0_17 (io), H22 IO_L2N_T0_17 (io), J18 IO_L5P_T0_17 (io), J19 IO_L5N_T0_17 (io), J21 IO_L3N_T0_DQS_17 (io), J22 IO_L2P_T0_17 (io), J23 IO_L1N_T0_17 (io), K18 IO_L6N_T0_VREF_17 (io), K19 IO_L4P_T0_17 (io), K20 IO_L4N_T0_17 (io), K21 IO_L3P_T0_DQS_17 (io), K23 IO_L1P_T0_17 (io), L17 IO_25_17 (io), L18 IO_L6P_T0_17 (io)
part G pins: AB11 PROGRAM_B_0 (in), AB12 M2_0 (in), AC10 DONE_0 (io), AC11 CFGBVS_0 (in), AC12 M1_0 (in), AC13 M0_0 (in), H10 INIT_B_0 (io), H11 TDI_0 (in), H12 TCK_0 (in), H13 CCLK_0 (io), J11 TMS_0 (in), J13 TDO_0 (out), R12 VREFN_0 (in), R13 VP_0 (in), T12 VN_0 (in), T13 VREFP_0 (in), U12 DXN_0 (in), U13 DXP_0 (in)
part H pins: A3 MGTXTXN2_116 (out), A4 MGTXTXP2_116 (out), A7 MGTXTXN1_117 (out), A8 MGTXTXP1_117 (out), A11 MGTXTXN3_117 (out), A12 MGTXTXP3_117 (out), AA3 MGTXRXN1_113 (in), AA4 MGTXRXP1_113 (in), AB1 MGTXTXN2_113 (out), AB2 MGTXTXP2_113 (out), AB5 MGTXRXN0_113 (in), AB6 MGTXRXP0_113 (in), AC3 MGTXRXN3_112 (in), AC4 MGTXRXP3_112 (in), AD1 MGTXTXN1_113 (out), AD2 MGTXTXP1_113 (out), AD5 MGTREFCLK0N_112 (in), AD6 MGTREFCLK0P_112 (in), AE3 MGTXRXN2_112 (in), AE4 MGTXRXP2_112 (in), AF1 MGTXTXN0_113 (out), AF2 MGTXTXP0_113 (out), AF5 MGTREFCLK1N_112 (in), AF6 MGTREFCLK1P_112 (in), AG3 MGTXRXN1_112 (in), AG4 MGTXRXP1_112 (in), AH1 MGTXTXN3_112 (out), AH2 MGTXTXP3_112 (out), AH5 MGTXRXN0_112 (in), AH6 MGTXRXP0_112 (in), AJ3 MGTXTXN1_112 (out), AJ4 MGTXTXP1_112 (out), AK1 MGTXTXN2_112 (out), AK2 MGTXTXP2_112 (out), AK5 MGTXTXN0_112 (out), AK6 MGTXTXP0_112 (out), B1 MGTXTXN1_116 (out), B2 MGTXTXP1_116 (out), B5 MGTXTXN3_116 (out), B6 MGTXTXP3_116 (out), B9 MGTXTXN2_117 (out), B10 MGTXTXP2_117 (out), C3 MGTXRXN3_116 (in), C4 MGTXRXP3_116 (in), C7 MGTXTXN0_117 (out), C8 MGTXTXP0_117 (out), C11 MGTXRXN3_117 (in), C12 MGTXRXP3_117 (in), D1 MGTXTXN0_116 (out), D2 MGTXTXP0_116 (out), D5 MGTXRXN2_116 (in), D6 MGTXRXP2_116 (in), D9 MGTXRXN1_117 (in), D10 MGTXRXP1_117 (in), E3 MGTXRXN1_116 (in), E4 MGTXRXP1_116 (in), E7 MGTREFCLK0N_117 (in), E8 MGTREFCLK0P_117 (in), E11 MGTXRXN2_117 (in), E12 MGTXRXP2_117 (in), F1 MGTXTXN3_115 (out), F2 MGTXTXP3_115 (out), F5 MGTREFCLK0N_116 (in), F6 MGTREFCLK0P_116 (in), F9 MGTXRXN0_117 (in), F10 MGTXRXP0_117 (in), G3 MGTXRXN0_116 (in), G4 MGTXRXP0_116 (in), G7 MGTREFCLK1N_117 (in), G8 MGTREFCLK1P_117 (in), H1 MGTXTXN2_115 (out), H2 MGTXTXP2_115 (out), H5 MGTREFCLK1N_116 (in), H6 MGTREFCLK1P_116 (in), J3 MGTXRXN3_115 (in), J4 MGTXRXP3_115 (in), J7 MGTREFCLK0N_115 (in), J8 MGTREFCLK0P_115 (in), K1 MGTXTXN1_115 (out), K2 MGTXTXP1_115 (out), K5 MGTXRXN2_115 (in), K6 MGTXRXP2_115 (in), L3 MGTXRXN1_115 (in), L4 MGTXRXP1_115 (in), L7 MGTREFCLK1N_115 (in), L8 MGTREFCLK1P_115 (in), M1 MGTXTXN0_115 (out), M2 MGTXTXP0_115 (out), M5 MGTXRXN0_115 (in), M6 MGTXRXP0_115 (in), N3 MGTXTXN3_114 (out), N4 MGTXTXP3_114 (out), N7 MGTRREF_115 (in), N8 MGTAVTTRCAL_115, P1 MGTXTXN2_114 (out), P2 MGTXTXP2_114 (out), P5 MGTXRXN3_114 (in), P6 MGTXRXP3_114 (in), R3 MGTXRXN2_114 (in), R4 MGTXRXP2_114 (in), R7 MGTREFCLK0N_114 (in), R8 MGTREFCLK0P_114 (in), T1 MGTXTXN1_114 (out), T2 MGTXTXP1_114 (out), T5 MGTREFCLK1N_114 (in), T6 MGTREFCLK1P_114 (in), U3 MGTXRXN1_114 (in), U4 MGTXRXP1_114 (in), U7 MGTREFCLK0N_113 (in), U8 MGTREFCLK0P_113 (in), V1 MGTXTXN0_114 (out), V2 MGTXTXP0_114 (out), V5 MGTXRXN0_114 (in), V6 MGTXRXP0_114 (in), W3 MGTXRXN3_113 (in), W4 MGTXRXP3_113 (in), W7 MGTREFCLK1N_113 (in), W8 MGTREFCLK1P_113 (in), Y1 MGTXTXN3_113 (out), Y2 MGTXTXP3_113 (out), Y5 MGTXRXN2_113 (in), Y6 MGTXRXP2_113 (in)
part I pins: AA6 MGTAVCC_G10 (power), AA8 MGTVCCAUX_G10 (power), AB3 MGTAVTT_G10 (power), AC2 MGTAVTT_G10 (power), AC6 MGTAVCC_G10 (power), AE6 MGTAVCC_G10 (power), AF3 MGTAVTT_G10 (power), AG2 MGTAVTT_G10 (power), AG6 MGTAVCC_G10 (power), AG9 MGTAVTT_G10 (power), AH7 MGTAVCC_G10 (power), AH11 MGTAVCC_G10 (power), AJ6 MGTAVTT_G10 (power), AJ9 MGTAVTT_G10 (power), AK3 MGTAVTT_G10 (power), AK7 MGTAVTT_G10 (power), AK11 MGTAVCC_G10 (power), B3 MGTAVTT_G11 (power), B7 MGTAVTT_G11 (power), B11 MGTAVCC_G11 (power), C2 MGTAVTT_G11 (power), C6 MGTAVTT_G11 (power), C9 MGTAVTT_G11 (power), D7 MGTAVCC_G11 (power), D11 MGTAVCC_G11 (power), E6 MGTAVCC_G11 (power), E9 MGTAVTT_G11 (power), F3 MGTAVTT_G11 (power), G2 MGTAVTT_G11 (power), G6 MGTAVCC_G11 (power), J6 MGTAVCC_G11 (power), K3 MGTAVTT_G11 (power), K8 MGTVCCAUX_G11 (power), L2 MGTAVTT_G11 (power), L6 MGTAVCC_G11 (power), N6 MGTAVCC_G10 (power), P3 MGTAVTT_G10 (power), R2 MGTAVTT_G10 (power), R6 MGTAVCC_G10 (power), U6 MGTAVCC_G10 (power), V3 MGTAVTT_G10 (power), W2 MGTAVTT_G10 (power), W6 MGTAVCC_G10 (power), Y7 MGTVCCAUX_G10 (power)
part J pins: A19 VCCO_17 (power), A29 VCCO_16 (power), AA19 VCCO_11 (power), AA29 VCCO_13 (power), AB16 VCCO_11 (power), AB26 VCCO_13 (power), AC23 VCCO_12 (power), AD20 VCCO_12 (power), AD30 VCCO_13 (power), AE17 VCCO_11 (power), AE27 VCCO_13 (power), AF14 VCCO_11 (power), AF24 VCCO_12 (power), AG21 VCCO_12 (power), AH18 VCCO_11 (power), AH28 VCCO_13 (power), AJ15 VCCO_11 (power), AJ25 VCCO_12 (power), AK22 VCCO_12 (power), B16 VCCO_18 (power), B26 VCCO_16 (power), C23 VCCO_17 (power), D20 VCCO_17 (power), D30 VCCO_16 (power), E17 VCCO_18 (power), E27 VCCO_16 (power), F14 VCCO_18 (power), F24 VCCO_16 (power), G21 VCCO_17 (power), H18 VCCO_17 (power), H28 VCCO_16 (power), J10 VCCO_0 (power), J15 VCCO_18 (power), J25 VCCO_16 (power), K11 VCCO_0 (power), K22 VCCO_17 (power), L19 VCCO_15 (power), L29 VCCO_15 (power), M26 VCCO_15 (power), N23 VCCO_15 (power), P20 VCCO_15 (power), P30 VCCO_15 (power), R17 VCCO_14 (power), R27 VCCO_14 (power), T24 VCCO_14 (power), U21 VCCO_14 (power), V18 VCCO_14 (power), V28 VCCO_14 (power), W25 VCCO_13 (power), Y22 VCCO_12 (power)
part K pins: AA11 VCCINT (power), AA13 VCCINT (power), AA15 VCCBRAM (power), G13 VCCBATT_0 (power), K12 VCCINT (power), K14 VCCINT (power), K16 VCCINT (power), L11 VCCINT (power), L13 VCCINT (power), L15 VCCINT (power), M10 VCCINT (power), M12 VCCINT (power), M14 VCCINT (power), M16 VCCAUX (power), N11 VCCINT (power), N13 VCCINT (power), N15 VCCINT (power), P10 VCCINT (power), P13 VCCADC_0 (power), P14 VCCINT (power), P16 VCCAUX (power), R11 VCCINT (power), R15 VCCBRAM (power), T10 VCCINT (power), T14 VCCINT (power), T16 VCCAUX (power), U11 VCCINT (power), U15 VCCBRAM (power), V10 VCCINT (power), V12 VCCINT (power), V14 VCCINT (power), V16 VCCAUX (power), W11 VCCINT (power), W13 VCCINT (power), W15 VCCBRAM (power), Y10 VCCINT (power), Y12 VCCINT (power), Y14 VCCINT (power), Y16 VCCAUX (power)
part L pins: A1 GND (power), A2 GND (power), A5 GND (power), A6 GND (power), A9 GND (power), A10 GND (power), A13 GND (power), A24 GND (power), B4 GND (power), B8 GND (power), B12 GND (power), B13 GND (power), B21 GND (power), C1 GND (power), C5 GND (power), C10 GND (power), C13 GND (power), C18 GND (power), C28 GND (power), D3 GND (power), D4 GND (power), D8 GND (power), D12 GND (power), D13 GND (power), D15 GND (power), D25 GND (power), E1 GND (power), E2 GND (power), E5 GND (power), E10 GND (power), E13 GND (power), E22 GND (power), F4 GND (power), F7 GND (power), F8 GND (power), F11 GND (power), F12 GND (power), F13 GND (power), F19 GND (power), F29 GND (power), G1 GND (power), G5 GND (power), G9 GND (power), G10 GND (power), G11 GND (power), G12 GND (power), G16 GND (power), G26 GND (power), H3 GND (power), H4 GND (power), H7 GND (power), H8 GND (power), H9 GND (power), H23 GND (power), J1 GND (power), J2 GND (power), J5 GND (power), J9 GND (power), J12 GND (power), J20 GND (power), J30 GND (power), K4 GND (power), K7 GND (power), K9 GND (power), K10 GND (power), K13 GND (power), K15 GND (power), K17 GND (power), K27 GND (power), L1 GND (power), L5 GND (power), L9 GND (power), L10 GND (power), L12 GND (power), L14 GND (power), L16 GND (power), L24 GND (power), M3 GND (power), M4 GND (power), M7 GND (power), M8 GND (power), M9 GND (power), M11 GND (power), M13 GND (power), M15 GND (power), M21 GND (power), N1 GND (power), N2 GND (power), N5 GND (power), N9 GND (power), N10 GND (power), N12 GND (power), N14 GND (power), N16 GND (power), N18 GND (power), N28 GND (power), P4 GND (power), P7 GND (power), P8 GND (power), P9 GND (power), P11 GND (power), P15 GND (power), P25 GND (power), R1 GND (power), R5 GND (power), R9 GND (power), R10 GND (power), R14 GND (power), R16 GND (power), R22 GND (power), T3 GND (power), T4 GND (power), T7 GND (power), T8 GND (power)
part M pins: AA1 GND (power), AA2 GND (power), AA5 GND (power), AA7 GND (power), AA9 GND (power), AA10 GND (power), AA12 GND (power), AA14 GND (power), AA16 GND (power), AA24 GND (power), AB4 GND (power), AB7 GND (power), AB8 GND (power), AB9 GND (power), AB10 GND (power), AB13 GND (power), AB21 GND (power), AC1 GND (power), AC5 GND (power), AC9 GND (power), AC18 GND (power), AC28 GND (power), AD3 GND (power), AD4 GND (power), AD7 GND (power), AD8 GND (power), AD9 GND (power), AD10 GND (power), AD11 GND (power), AD12 GND (power), AD13 GND (power), AD15 GND (power), AD25 GND (power), AE1 GND (power), AE2 GND (power), AE5 GND (power), AE9 GND (power), AE10 GND (power), AE13 GND (power), AE22 GND (power), AF4 GND (power), AF7 GND (power), AF8 GND (power), AF11 GND (power), AF12 GND (power), AF13 GND (power), AF19 GND (power), AF29 GND (power), AG1 GND (power), AG5 GND (power), AG10 GND (power), AG13 GND (power), AG16 GND (power), AG26 GND (power), AH3 GND (power), AH4 GND (power), AH8 GND (power), AH12 GND (power), AH13 GND (power), AH23 GND (power), AJ1 GND (power), AJ2 GND (power), AJ5 GND (power), AJ10 GND (power), AJ13 GND (power), AJ20 GND (power), AJ30 GND (power), AK4 GND (power), AK8 GND (power), AK12 GND (power), AK13 GND (power), AK17 GND (power), AK27 GND (power), P12 GNDADC_0 (power), T9 GND (power), T11 GND (power), T15 GND (power), T19 GND (power), T29 GND (power), U1 GND (power), U2 GND (power), U5 GND (power), U9 GND (power), U10 GND (power), U14 GND (power), U16 GND (power), U26 GND (power), V4 GND (power), V7 GND (power), V8 GND (power), V9 GND (power), V11 GND (power), V13 GND (power), V15 GND (power), V23 GND (power), W1 GND (power), W5 GND (power), W9 GND (power), W10 GND (power), W12 GND (power), W14 GND (power), W16 GND (power), W20 GND (power), W30 GND (power), Y3 GND (power), Y4 GND (power), Y8 GND (power), Y9 GND (power), Y11 GND (power), Y13 GND (power), Y15 GND (power), Y17 GND (power), Y27 GND (power)
part N pins: A14 NC, A15 NC, A16 NC, A17 NC, AA17 NC, AA18 NC, AB14 NC, AB15 NC, AB17 NC, AB18 NC, AB19 NC, AC7 NC, AC8 NC, AC14 NC, AC15 NC, AC16 NC, AC17 NC, AC19 NC, AD14 NC, AD16 NC, AD17 NC, AD18 NC, AD19 NC, AE7 NC, AE8 NC, AE11 NC, AE12 NC, AE14 NC, AE15 NC, AE16 NC, AE18 NC, AE19 NC, AF9 NC, AF10 NC, AF15 NC, AF16 NC, AF17 NC, AF18 NC, AG7 NC, AG8 NC, AG11 NC, AG12 NC, AG14 NC, AG15 NC, AG17 NC, AG18 NC, AG19 NC, AH9 NC, AH10 NC, AH14 NC, AH15 NC, AH16 NC, AH17 NC, AH19 NC, AH20 NC, AJ7 NC, AJ8 NC, AJ11 NC, AJ12 NC, AJ14 NC, AJ16 NC, AJ17 NC, AJ18 NC, AJ19 NC, AK9 NC, AK10 NC, AK14 NC, AK15 NC, AK16 NC, AK18 NC, AK19 NC, AK20 NC, B14 NC, B15 NC, B17 NC, C14 NC, C15 NC, C16 NC, C17 NC, D14 NC, D16 NC, D17 NC, E14 NC, E15 NC, E16 NC, F15 NC, F16 NC, F17 NC, G14 NC, G15 NC, G17 NC, H14 NC, H15 NC, H16 NC, H17 NC, J14 NC, J16 NC, J17 NC, Y18 NC, Y19 NC
part A text: BANK 12
part B text: BANK 13
part C text: BANK 14
part D text: BANK 15
part E text: BANK 16
part F text: BANK 17

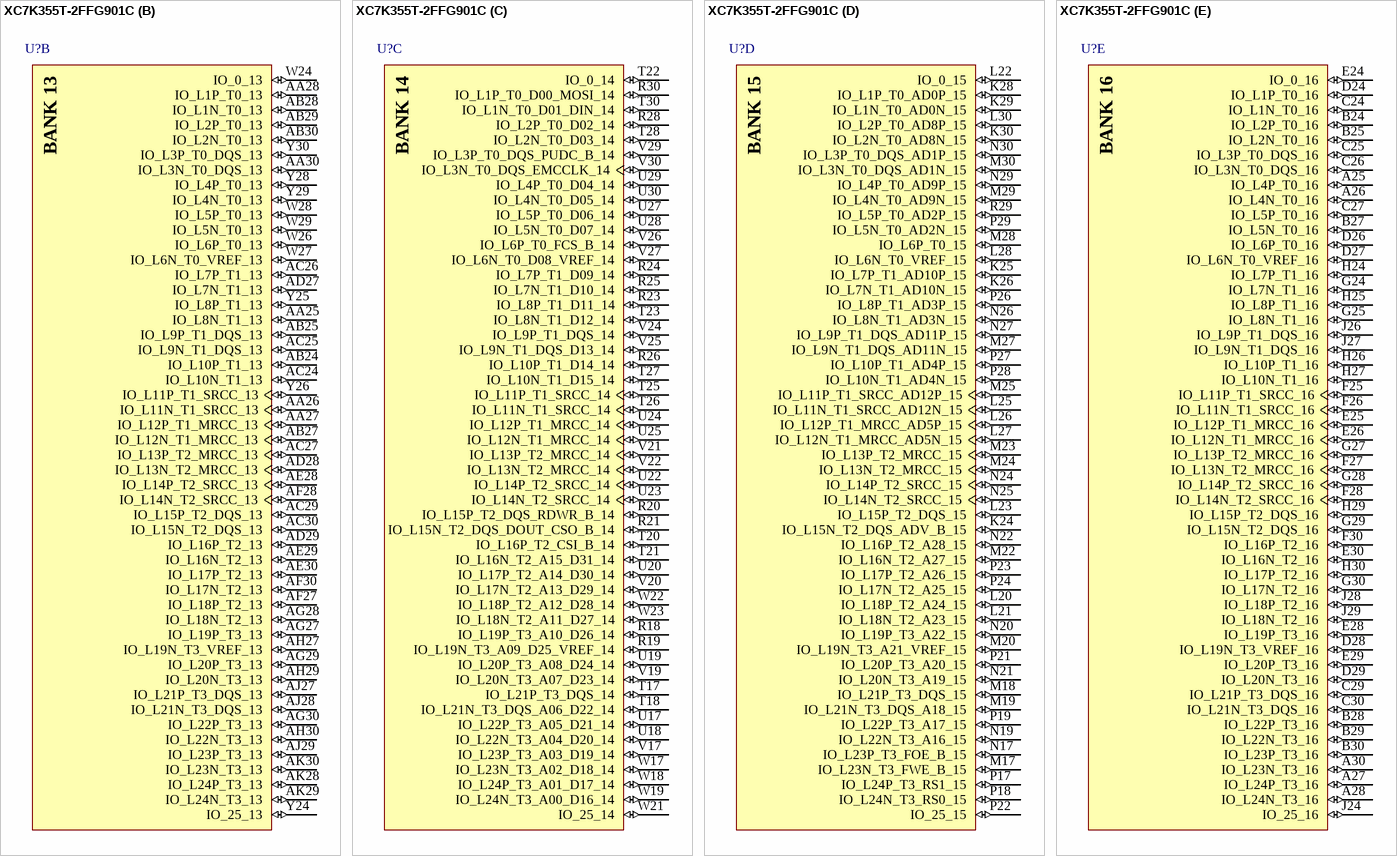
[diagram p139: symbol XC7K355T-2FFG901C]

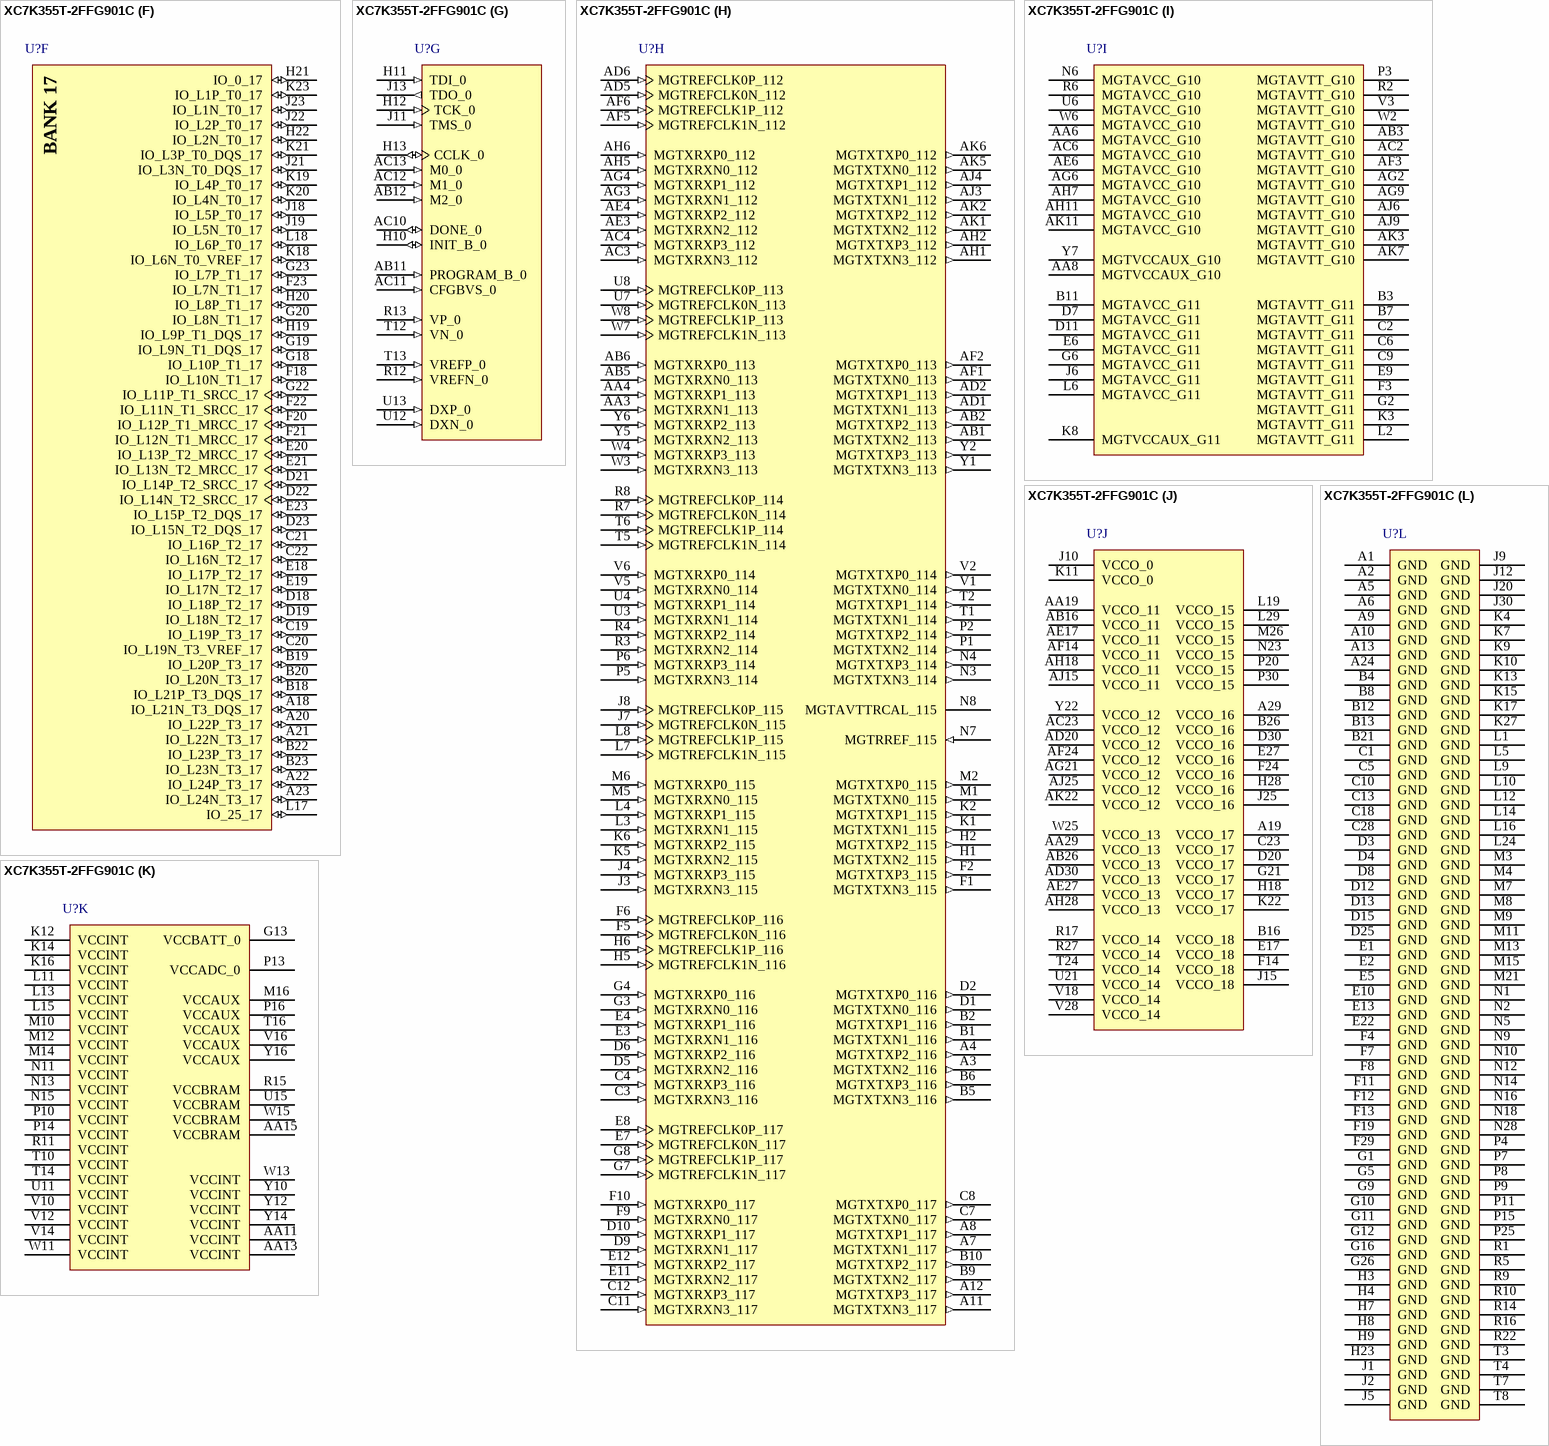
[diagram p140: symbol XC7K355T-2FFG901C]

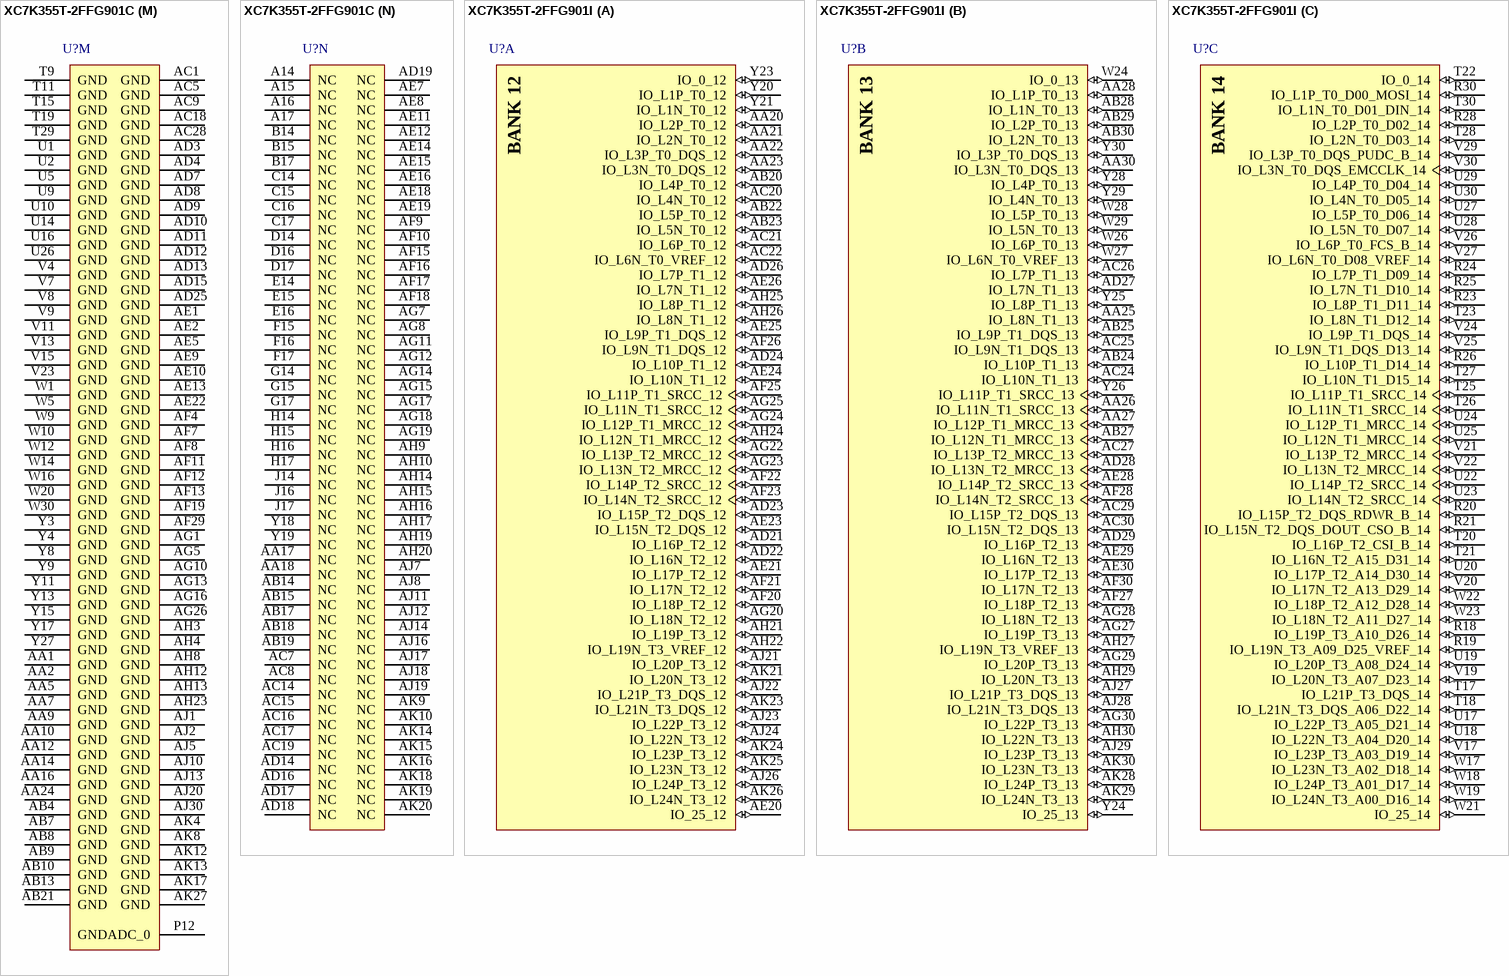
[diagram p141: symbols XC7K355T-2FFG901C to XC7K355T-2FFG901I]